# EAGLE library part ARM-6PIN (library mplab)
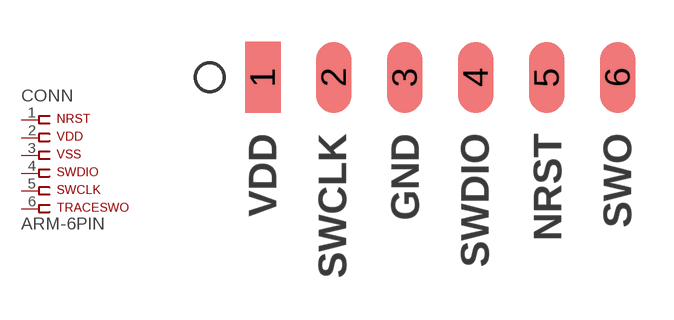
[diagram p0: symbol with the pads of POGO_PINS_6_PIN-LEFT; footprint POGO_PINS_6_PIN-LEFT]

Designator prefix CONN

## ARM-6PIN  [POGO_PINS_6_PIN-LEFT]
1  1  pas
2  2  pas
3  3  pas
4  4  pas
5  5  pas
6  6  pas

## Footprint POGO_PINS_6_PIN-LEFT (pad centres in mm)
smd 1.27 x 2.54: 1 0,0; 2 2.54,0; 3 5.08,0; 4 7.62,0; 5 10.16,0; 6 12.7,0